# EAGLE library part MAX2750 (library RADAR)
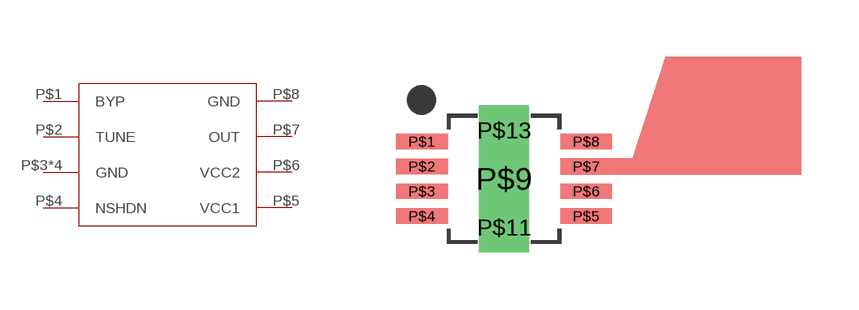
[diagram p0: symbol with the pads of MAX2750; footprint MAX2750]

Designator prefix -

## MAX2750  [MAX2750]
P$1  BYP  pas
P$2  TUNE  in
P$3  GND  pwr
P$4  NSHDN  in
P$5  VCC1  pwr
P$6  VCC2  pwr
P$7  OUT  out
P$8  GND  pwr
P$9  GND  pwr
P$11  GND  pwr
P$13  GND  pwr

## Footprint MAX2750 (pad centres in mm)
smd 1.35 x 0.4: P$1 -2.15,0.975; P$2 -2.15,0.325; P$3 -2.15,-0.325; P$4 -2.15,-0.975; P$5 2.15,-0.975; P$6 2.15,-0.325; P$7 2.15,0.325; P$8 2.15,0.975
drill 0.8 pad 1.27 square: P$9 0,0; P$11 0,-1.27; P$13 0,1.27